# Altium footprint library PCB - LEADLESS - QFN - TI VQFN-7 HR RWU.PCBLIB: 1 footprints
Each footprint in its own frame and in the unit in brackets; x right, y up, seen from the top. Pads: shape width x height; smd on the part's side, far side on the other; paste and mask are expansions set on the pad; w line width, h text height; cw(c..) or ccw(c..) is an arc to the next point about the centre after c.
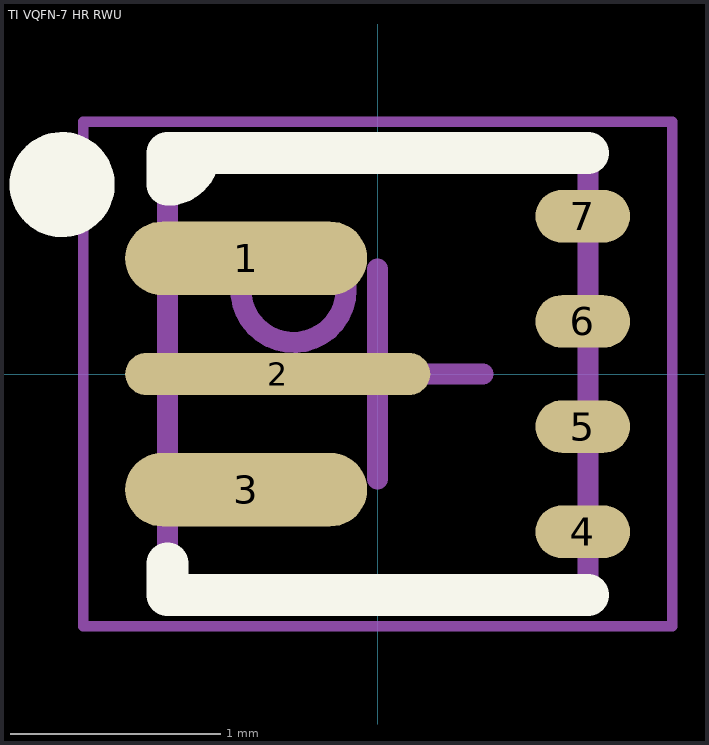
[diagram p0: the footprint, top view; thin cyan lines are the x and y axes]

## TI VQFN-7 HR RWU [mm] "VQFN, 7-Leads, Body 2.0x2.0mm, Pitch 0.50mm, IPC Medium Density"
height 1
pads (7):
  oval 1.15x0.35 smd paste-1 mask+0.07: 1(-0.625,0.55) 3(-0.625,-0.55)
  oval 1.45x0.2 smd paste-1 mask+0.07: 2(-0.475,0)
  oval 0.45x0.25 smd mask+0.07: 4(0.975,-0.75) 5(0.975,-0.25) 6(0.975,0.25) 7(0.975,0.75)
Top Overlay:
  circle w0.25: c-1.5,0.9 r0.125
  lines w0.2: -1,-0.9 -1,-1.05 1,-1.05 ; -0.85,1.05 cw(c-1,1.05) -1,0.9 -1,1.05 1,1.05
Top Paste:
  drawing of 6 lines, arcs and shapes, not listed
Mechanical 13:
  circle w0.1: c-0.4,0.4 r0.25
  lines w0.1: -1,-1 1,-1 1,1 -1,1 -1,-1
Mechanical 15:
  lines w0.05: -1.4,-1.2 1.4,-1.2 1.4,1.2 -1.4,1.2 -1.4,-1.2
  lines w0.1: -0.5,0 0.5,0 ; 0,-0.5 0,0.5
3D body "TI - VQFN-7 HR v3.step": height 1, standoff 0, extent -1,-1 1,1